# Altium integrated library TI_Logic_Gate.IntLib: 2017 symbols (part 7 of 56)
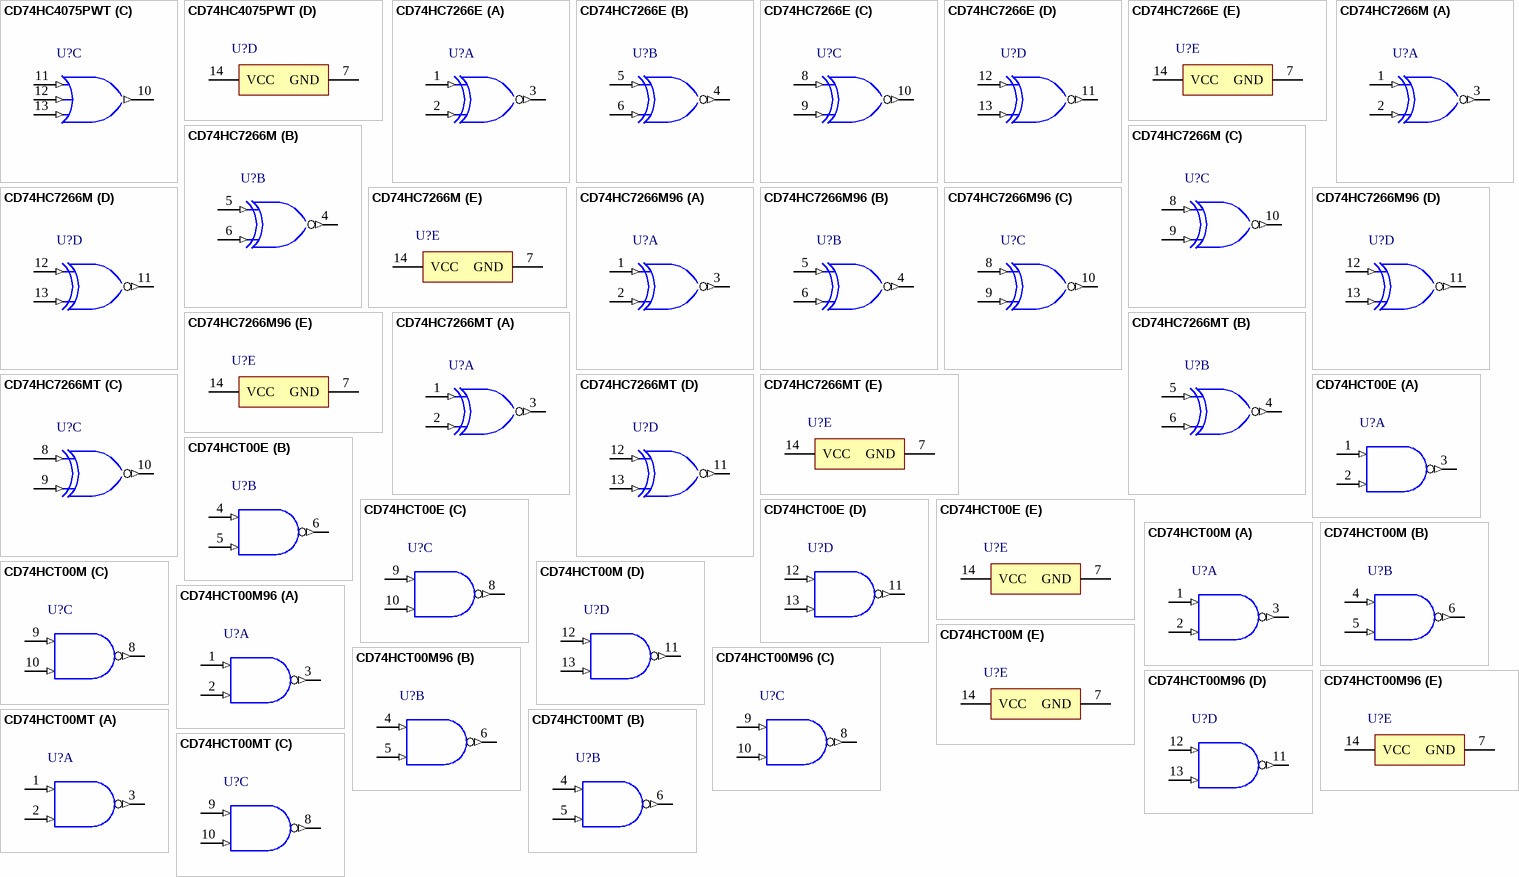
[diagram p232: symbols CD74HC4075PWT to CD74HCT00MT]

## CD74HC7266E
designator U?
High Speed CMOS Logic Quad 2-Input Exclusive-NOR Gates, N0014A, TUBE; Generic Part Number: CD74HC7266; Manufacturer: Texas Instruments; PartNumber: CD74HC7266E; VCC(Min)(V): 2; VCC(Max)(V): 6; Output Drive(mA): -5.2/5.2; ICC @ Nom Voltage(Max)(mA): 0.02; Bits(#): 4; F @ Nom Voltage(Max)(Mhz): 9; Rating: Catalog; Technology Family: HC; Voltage(Nom)(V): 10; Schmitt Trigger: No; tpd @ Nom Voltage(Max)(ns): 25; DatasheetVersion: SCHS219D; PackageReference: N0014A; Supplier 1: Mouser; Supplier Part Number 1: 595-CD74HC7266E; Supplier 2: Digi-Key; Supplier Part Number 2: 296-33119-5-ND; Output Type: CMOS; Input Type: CMOS; Operating Temperature Range(C): -55 to 125; Output Drive (IOL/IOH)(Max)(mA): -5.2/5.2; ComponentLink1Description: Manufacturer URL; ComponentLink1URL: http://www.ti.com/; ComponentLink2Description: Datasheet; ComponentLink2URL: http://www.ti.com/lit/ds/symlink/cd74hc7266.pdf
footprint N0014A (DIP, 14-Leads, Body 19.7x6.6mm, Pitch 2.54mm)
part A pins: 1 1A (in), 2 1B (in), 3 1Y (out)
part B pins: 4 2Y (out), 5 2A (in), 6 2B (in)
part C pins: 8 3A (in), 9 3B (in), 10 3Y (out)
part D pins: 11 4Y (out), 12 4A (in), 13 4B (in)
part E pins: 7 GND (power), 14 VCC (power)

## CD74HC7266M
designator U?
High Speed CMOS Logic Quad 2-Input Exclusive-NOR Gates, D0014A, TUBE; Generic Part Number: CD74HC7266; Manufacturer: Texas Instruments; PartNumber: CD74HC7266M; VCC(Min)(V): 2; VCC(Max)(V): 6; Output Drive(mA): -5.2/5.2; ICC @ Nom Voltage(Max)(mA): 0.02; Bits(#): 4; F @ Nom Voltage(Max)(Mhz): 9; Rating: Catalog; Technology Family: HC; Voltage(Nom)(V): 10; Schmitt Trigger: No; tpd @ Nom Voltage(Max)(ns): 25; DatasheetVersion: SCHS219D; PackageReference: D0014A; Supplier 1: Mouser; Supplier Part Number 1: 595-CD74HC7266M; Supplier 2: Digi-Key; Supplier Part Number 2: 296-9239-5-ND; Output Type: CMOS; Input Type: CMOS; Operating Temperature Range(C): -55 to 125; Output Drive (IOL/IOH)(Max)(mA): -5.2/5.2; ComponentLink1Description: Manufacturer URL; ComponentLink1URL: http://www.ti.com/; ComponentLink2Description: Datasheet; ComponentLink2URL: http://www.ti.com/lit/ds/symlink/cd74hc7266.pdf
footprint D0014A_N (SOIC, 14-Leads, Body 8.75x4mm, Pitch 1.27mm, IPC Medium Density)
footprint D0014A_M (SOIC, 14-Leads, Body 8.75x4mm, Pitch 1.27mm, IPC Low Density)
footprint D0014A_L (SOIC, 14-Leads, Body 8.75x4mm, Pitch 1.27mm, IPC High Density)
part A pins: 1 1A (in), 2 1B (in), 3 1Y (out)
part B pins: 4 2Y (out), 5 2A (in), 6 2B (in)
part C pins: 8 3A (in), 9 3B (in), 10 3Y (out)
part D pins: 11 4Y (out), 12 4A (in), 13 4B (in)
part E pins: 7 GND (power), 14 VCC (power)

## CD74HC7266M96
designator U?
High Speed CMOS Logic Quad 2-Input Exclusive-NOR Gates, D0014A, LARGE T&R; Generic Part Number: CD74HC7266; Manufacturer: Texas Instruments; PartNumber: CD74HC7266M96; VCC(Min)(V): 2; VCC(Max)(V): 6; Output Drive(mA): -5.2/5.2; ICC @ Nom Voltage(Max)(mA): 0.02; Bits(#): 4; F @ Nom Voltage(Max)(Mhz): 9; Rating: Catalog; Technology Family: HC; Voltage(Nom)(V): 10; Schmitt Trigger: No; tpd @ Nom Voltage(Max)(ns): 25; DatasheetVersion: SCHS219D; PackageReference: D0014A; Supplier 1: Mouser; Supplier Part Number 1: 595-CD74HC7266M96; Supplier 2: Digi-Key; Supplier Part Number 2: 296-28580-2-ND; Supplier 3: Digi-Key; Supplier Part Number 3: 296-28580-1-ND; Supplier 4: Digi-Key; Supplier Part Number 4: 296-28580-6-ND; Output Type: CMOS; Input Type: CMOS; Operating Temperature Range(C): -55 to 125; Output Drive (IOL/IOH)(Max)(mA): -5.2/5.2; ComponentLink1Description: Manufacturer URL; ComponentLink1URL: http://www.ti.com/; ComponentLink2Description: Datasheet; ComponentLink2URL: http://www.ti.com/lit/ds/symlink/cd74hc7266.pdf
footprint D0014A_N (SOIC, 14-Leads, Body 8.75x4mm, Pitch 1.27mm, IPC Medium Density)
footprint D0014A_M (SOIC, 14-Leads, Body 8.75x4mm, Pitch 1.27mm, IPC Low Density)
footprint D0014A_L (SOIC, 14-Leads, Body 8.75x4mm, Pitch 1.27mm, IPC High Density)
part A pins: 1 1A (in), 2 1B (in), 3 1Y (out)
part B pins: 4 2Y (out), 5 2A (in), 6 2B (in)
part C pins: 8 3A (in), 9 3B (in), 10 3Y (out)
part D pins: 11 4Y (out), 12 4A (in), 13 4B (in)
part E pins: 7 GND (power), 14 VCC (power)

## CD74HC7266MT
designator U?
High Speed CMOS Logic Quad 2-Input Exclusive-NOR Gates, D0014A, SMALL T&R; Generic Part Number: CD74HC7266; Manufacturer: Texas Instruments; PartNumber: CD74HC7266MT; VCC(Min)(V): 2; VCC(Max)(V): 6; Output Drive(mA): -5.2/5.2; ICC @ Nom Voltage(Max)(mA): 0.02; Bits(#): 4; F @ Nom Voltage(Max)(Mhz): 9; Rating: Catalog; Technology Family: HC; Voltage(Nom)(V): 10; Schmitt Trigger: No; tpd @ Nom Voltage(Max)(ns): 25; DatasheetVersion: SCHS219D; PackageReference: D0014A; Supplier 1: Mouser; Supplier Part Number 1: 595-CD74HC7266MT; Supplier 2: Digi-Key; Supplier Part Number 2: 296-28581-2-ND; Supplier 3: Digi-Key; Supplier Part Number 3: 296-28581-1-ND; Supplier 4: Digi-Key; Supplier Part Number 4: 296-28581-6-ND; Output Type: CMOS; Input Type: CMOS; Operating Temperature Range(C): -55 to 125; Output Drive (IOL/IOH)(Max)(mA): -5.2/5.2; ComponentLink1Description: Manufacturer URL; ComponentLink1URL: http://www.ti.com/; ComponentLink2Description: Datasheet; ComponentLink2URL: http://www.ti.com/lit/ds/symlink/cd74hc7266.pdf
footprint D0014A_N (SOIC, 14-Leads, Body 8.75x4mm, Pitch 1.27mm, IPC Medium Density)
footprint D0014A_M (SOIC, 14-Leads, Body 8.75x4mm, Pitch 1.27mm, IPC Low Density)
footprint D0014A_L (SOIC, 14-Leads, Body 8.75x4mm, Pitch 1.27mm, IPC High Density)
part A pins: 1 1A (in), 2 1B (in), 3 1Y (out)
part B pins: 4 2Y (out), 5 2A (in), 6 2B (in)
part C pins: 8 3A (in), 9 3B (in), 10 3Y (out)
part D pins: 11 4Y (out), 12 4A (in), 13 4B (in)
part E pins: 7 GND (power), 14 VCC (power)

## CD74HCT00E
designator U?
High Speed CMOS Logic Quad 2-Input NAND Gates, N0014A, TUBE; Generic Part Number: CD74HCT00; Manufacturer: Texas Instruments; PartNumber: CD74HCT00E; VCC(Min)(V): 4.5; VCC(Max)(V): 5.5; ICC @ Nom Voltage(Max)(mA): 0.02; Input Type: TTL; Bits(#): 4; F @ Nom Voltage(Max)(Mhz): 25; Rating: Catalog; Technology Family: HCT; Voltage(Nom)(V): 5; Schmitt Trigger: No; Output Drive (IOL/IOH)(Max)(mA): 4/-4; DatasheetVersion: SCHS116C; PackageReference: N0014A; Supplier 1: Mouser; Supplier Part Number 1: 595-CD74HCT00E; Supplier 2: Digi-Key; Supplier Part Number 2: 296-2081-5-ND; Output Type: CMOS; Operating Temperature Range(C): -55 to 125; tpd @ Nom Voltage(Max)(ns): 25; Code_JEDEC: MS-001; ComponentLink1Description: Manufacturer URL; ComponentLink1URL: http://www.ti.com/; ComponentLink2Description: Datasheet; ComponentLink2URL: http://www.ti.com/lit/ds/symlink/cd74hct00.pdf; ComponentLink3Description: Package Specification; ComponentLink3URL: http://www.ti.com/lit/ml/mpdi002c/mpdi002c.pdf
footprint N0014A (DIP, 14-Leads, Body 19.7x6.6mm, Pitch 2.54mm)
part A pins: 1 1A (in) "Gate 1 input", 2 1B (in) "Gate 1 input", 3 1Y (out) "Gate 1 output"
part B pins: 4 2A (in) "Gate 2 input", 5 2B (in) "Gate 2 input", 6 2Y (out) "Gate 2 output"
part C pins: 8 3Y (out) "Gate 3 output", 9 3A (in) "Gate 3 input", 10 3B (in) "Gate 3 input"
part D pins: 11 4Y (out) "Gate 4 output", 12 4A (in) "Gate 4 input", 13 4B (in) "Gate 4 input"
part E pins: 7 GND (power) "Ground Pin", 14 VCC (power) "Power Pin"

## CD74HCT00M
designator U?
High Speed CMOS Logic Quad 2-Input NAND Gates, D0014A, TUBE; Generic Part Number: CD74HCT00; Manufacturer: Texas Instruments; PartNumber: CD74HCT00M; VCC(Min)(V): 4.5; VCC(Max)(V): 5.5; ICC @ Nom Voltage(Max)(mA): 0.02; Input Type: TTL; Bits(#): 4; F @ Nom Voltage(Max)(Mhz): 25; Rating: Catalog; Technology Family: HCT; Voltage(Nom)(V): 5; Schmitt Trigger: No; Output Drive (IOL/IOH)(Max)(mA): 4/-4; DatasheetVersion: SCHS116C; PackageReference: D0014A; Supplier 1: Mouser; Supplier Part Number 1: 595-CD74HCT00M; Supplier 2: Digi-Key; Supplier Part Number 2: 296-9244-5-ND; Output Type: CMOS; Operating Temperature Range(C): -55 to 125; tpd @ Nom Voltage(Max)(ns): 25; Code_JEDEC: MS-012; ComponentLink1Description: Manufacturer URL; ComponentLink1URL: http://www.ti.com/; ComponentLink2Description: Datasheet; ComponentLink2URL: http://www.ti.com/lit/ds/symlink/cd74hct00.pdf; ComponentLink3Description: Package Specification; ComponentLink3URL: http://www.ti.com/lit/ml/mpds177g/mpds177g.pdf
footprint D0014A_N (SOIC, 14-Leads, Body 8.75x4mm, Pitch 1.27mm, IPC Medium Density)
footprint D0014A_M (SOIC, 14-Leads, Body 8.75x4mm, Pitch 1.27mm, IPC Low Density)
footprint D0014A_L (SOIC, 14-Leads, Body 8.75x4mm, Pitch 1.27mm, IPC High Density)
part A pins: 1 1A (in) "Gate 1 input", 2 1B (in) "Gate 1 input", 3 1Y (out) "Gate 1 output"
part B pins: 4 2A (in) "Gate 2 input", 5 2B (in) "Gate 2 input", 6 2Y (out) "Gate 2 output"
part C pins: 8 3Y (out) "Gate 3 output", 9 3A (in) "Gate 3 input", 10 3B (in) "Gate 3 input"
part D pins: 11 4Y (out) "Gate 4 output", 12 4A (in) "Gate 4 input", 13 4B (in) "Gate 4 input"
part E pins: 7 GND (power) "Ground Pin", 14 VCC (power) "Power Pin"

## CD74HCT00M96
designator U?
High Speed CMOS Logic Quad 2-Input NAND Gates, D0014A, LARGE T&R; Generic Part Number: CD74HCT00; Manufacturer: Texas Instruments; PartNumber: CD74HCT00M96; VCC(Min)(V): 4.5; VCC(Max)(V): 5.5; ICC @ Nom Voltage(Max)(mA): 0.02; Input Type: TTL; Bits(#): 4; F @ Nom Voltage(Max)(Mhz): 25; Rating: Catalog; Technology Family: HCT; Voltage(Nom)(V): 5; Schmitt Trigger: No; Output Drive (IOL/IOH)(Max)(mA): 4/-4; DatasheetVersion: SCHS116C; PackageReference: D0014A; Supplier 1: Mouser; Supplier Part Number 1: 595-CD74HCT00M96; Supplier 2: Digi-Key; Supplier Part Number 2: 296-14542-2-ND; Supplier 3: Digi-Key; Supplier Part Number 3: 296-14542-1-ND; Supplier 4: Digi-Key; Supplier Part Number 4: 296-14542-6-ND; Output Type: CMOS; Operating Temperature Range(C): -55 to 125; tpd @ Nom Voltage(Max)(ns): 25; Code_JEDEC: MS-012; ComponentLink1Description: Manufacturer URL; ComponentLink1URL: http://www.ti.com/; ComponentLink2Description: Datasheet; ComponentLink2URL: http://www.ti.com/lit/ds/symlink/cd74hct00.pdf; ComponentLink3Description: Package Specification; ComponentLink3URL: http://www.ti.com/lit/ml/mpds177g/mpds177g.pdf
footprint D0014A_N (SOIC, 14-Leads, Body 8.75x4mm, Pitch 1.27mm, IPC Medium Density)
footprint D0014A_M (SOIC, 14-Leads, Body 8.75x4mm, Pitch 1.27mm, IPC Low Density)
footprint D0014A_L (SOIC, 14-Leads, Body 8.75x4mm, Pitch 1.27mm, IPC High Density)
part A pins: 1 1A (in) "Gate 1 input", 2 1B (in) "Gate 1 input", 3 1Y (out) "Gate 1 output"
part B pins: 4 2A (in) "Gate 2 input", 5 2B (in) "Gate 2 input", 6 2Y (out) "Gate 2 output"
part C pins: 8 3Y (out) "Gate 3 output", 9 3A (in) "Gate 3 input", 10 3B (in) "Gate 3 input"
part D pins: 11 4Y (out) "Gate 4 output", 12 4A (in) "Gate 4 input", 13 4B (in) "Gate 4 input"
part E pins: 7 GND (power) "Ground Pin", 14 VCC (power) "Power Pin"

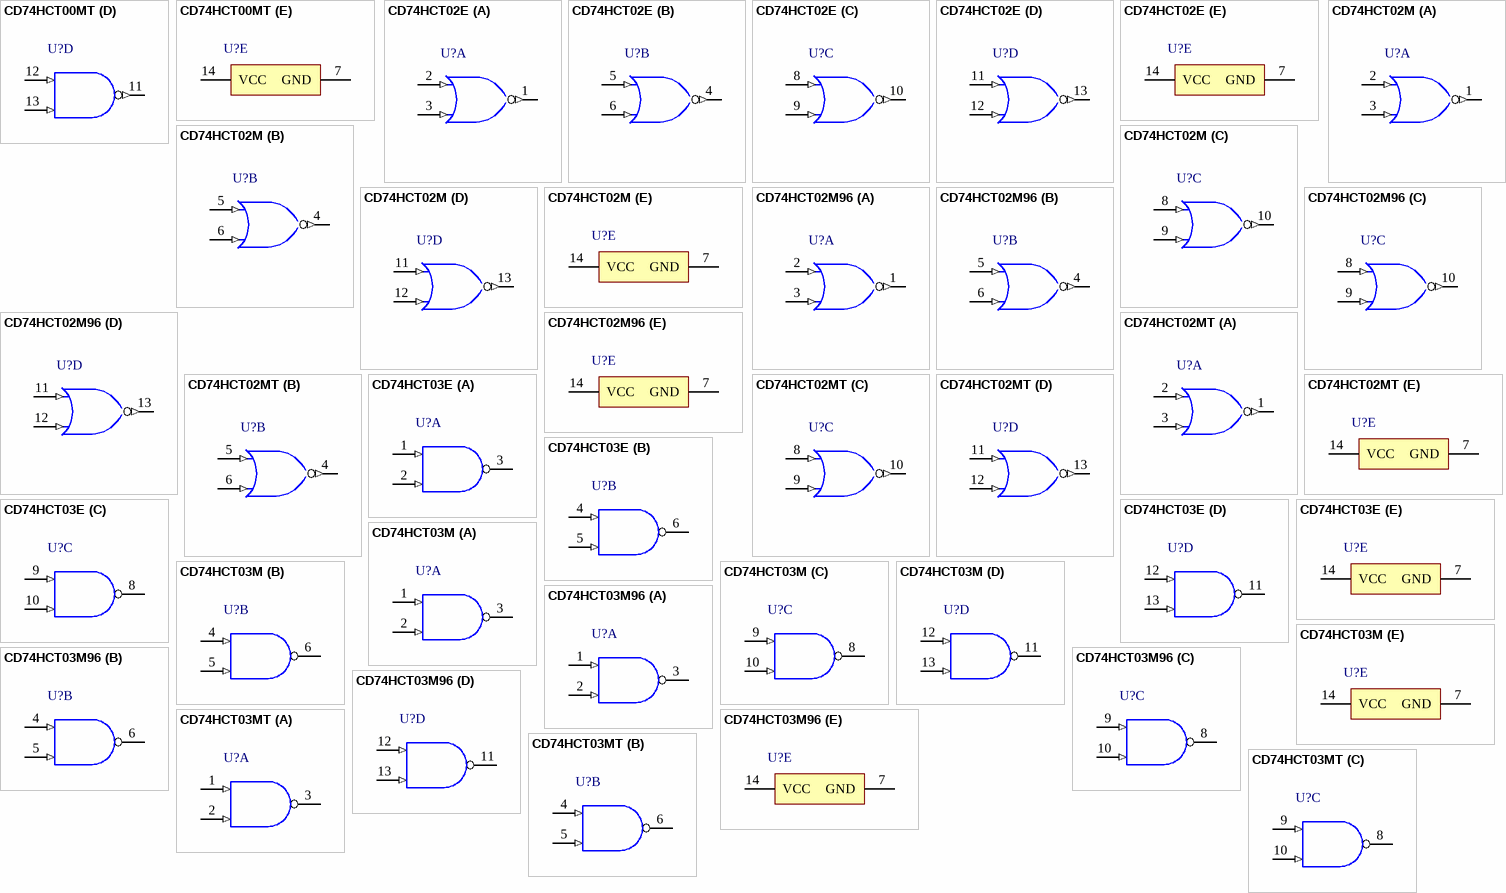
[diagram p26: symbols CD74HCT00MT to CD74HCT03MT]

## CD74HCT00MT
designator U?
High Speed CMOS Logic Quad 2-Input NAND Gates, D0014A, SMALL T&R; Generic Part Number: CD74HCT00; Manufacturer: Texas Instruments; PartNumber: CD74HCT00MT; VCC(Min)(V): 4.5; VCC(Max)(V): 5.5; ICC @ Nom Voltage(Max)(mA): 0.02; Input Type: TTL; Bits(#): 4; F @ Nom Voltage(Max)(Mhz): 25; Rating: Catalog; Technology Family: HCT; Voltage(Nom)(V): 5; Schmitt Trigger: No; Output Drive (IOL/IOH)(Max)(mA): 4/-4; DatasheetVersion: SCHS116C; PackageReference: D0014A; Supplier 1: Mouser; Supplier Part Number 1: 595-CD74HCT00MT; Supplier 2: Digi-Key; Supplier Part Number 2: 296-28584-2-ND; Supplier 3: Digi-Key; Supplier Part Number 3: 296-28584-1-ND; Supplier 4: Digi-Key; Supplier Part Number 4: 296-28584-6-ND; Output Type: CMOS; Operating Temperature Range(C): -55 to 125; tpd @ Nom Voltage(Max)(ns): 25; Code_JEDEC: MS-012; ComponentLink1Description: Manufacturer URL; ComponentLink1URL: http://www.ti.com/; ComponentLink2Description: Datasheet; ComponentLink2URL: http://www.ti.com/lit/ds/symlink/cd74hct00.pdf; ComponentLink3Description: Package Specification; ComponentLink3URL: http://www.ti.com/lit/ml/mpds177g/mpds177g.pdf
footprint D0014A_N (SOIC, 14-Leads, Body 8.75x4mm, Pitch 1.27mm, IPC Medium Density)
footprint D0014A_M (SOIC, 14-Leads, Body 8.75x4mm, Pitch 1.27mm, IPC Low Density)
footprint D0014A_L (SOIC, 14-Leads, Body 8.75x4mm, Pitch 1.27mm, IPC High Density)
part A pins: 1 1A (in) "Gate 1 input", 2 1B (in) "Gate 1 input", 3 1Y (out) "Gate 1 output"
part B pins: 4 2A (in) "Gate 2 input", 5 2B (in) "Gate 2 input", 6 2Y (out) "Gate 2 output"
part C pins: 8 3Y (out) "Gate 3 output", 9 3A (in) "Gate 3 input", 10 3B (in) "Gate 3 input"
part D pins: 11 4Y (out) "Gate 4 output", 12 4A (in) "Gate 4 input", 13 4B (in) "Gate 4 input"
part E pins: 7 GND (power) "Ground Pin", 14 VCC (power) "Power Pin"

## CD74HCT02E
designator U?
High Speed CMOS Logic Quad Two-Input NOR Gates, N0014A, TUBE; Generic Part Number: CD74HCT02; Manufacturer: Texas Instruments; PartNumber: CD74HCT02E; VCC(Min)(V): 4.5; VCC(Max)(V): 5.5; Input Type: TTL; Bits(#): 4; Rating: Catalog; tpd @ Nom Voltage(Max)(ns): 26; ICC @ Nom Voltage(Max)(mA): 0.02; F @ Nom Voltage(Max)(Mhz): 25; Voltage(Nom)(V): 5; Output Drive (IOL/IOH)(Max)(mA): 4/-4; DatasheetVersion: SCHS125C; PackageReference: N0014A; Output Type: CMOS; Operating Temperature Range(C): -55 to 125; Code_JEDEC: MS-001; ComponentLink1Description: Manufacturer URL; ComponentLink1URL: http://www.ti.com/; ComponentLink2Description: Datasheet; ComponentLink2URL: http://www.ti.com/lit/ds/symlink/cd74hct02.pdf; ComponentLink3Description: Package Specification; ComponentLink3URL: http://www.ti.com/lit/ml/mpdi002c/mpdi002c.pdf
footprint N0014A (DIP, 14-Leads, Body 19.7x6.6mm, Pitch 2.54mm)
part A pins: 1 1Y (out) "1Y output", 2 1A (in) "1A input", 3 1B (in) "1B input"
part B pins: 4 2Y (out) "2Y output", 5 2A (in) "2A input", 6 2B (in) "2B input"
part C pins: 8 3A (in) "3A input", 9 3B (in) "3B input", 10 3Y (out) "3Y output"
part D pins: 11 4A (in) "4A input", 12 4B (in) "4B input", 13 4Y (out) "4Y output"
part E pins: 7 GND (power), 14 VCC (power)

## CD74HCT02M
designator U?
High Speed CMOS Logic Quad Two-Input NOR Gates, D0014A, TUBE; Generic Part Number: CD74HCT02; Manufacturer: Texas Instruments; PartNumber: CD74HCT02M; VCC(Min)(V): 4.5; VCC(Max)(V): 5.5; Input Type: TTL; Bits(#): 4; Rating: Catalog; tpd @ Nom Voltage(Max)(ns): 26; ICC @ Nom Voltage(Max)(mA): 0.02; F @ Nom Voltage(Max)(Mhz): 25; Voltage(Nom)(V): 5; Output Drive (IOL/IOH)(Max)(mA): 4/-4; DatasheetVersion: SCHS125C; PackageReference: D0014A; Output Type: CMOS; Operating Temperature Range(C): -55 to 125; Code_JEDEC: MS-012; ComponentLink1Description: Manufacturer URL; ComponentLink1URL: http://www.ti.com/; ComponentLink2Description: Datasheet; ComponentLink2URL: http://www.ti.com/lit/ds/symlink/cd74hct02.pdf; ComponentLink3Description: Package Specification; ComponentLink3URL: http://www.ti.com/lit/ml/mpds177g/mpds177g.pdf
footprint D0014A_N (SOIC, 14-Leads, Body 8.75x4mm, Pitch 1.27mm, IPC Medium Density)
footprint D0014A_M (SOIC, 14-Leads, Body 8.75x4mm, Pitch 1.27mm, IPC Low Density)
footprint D0014A_L (SOIC, 14-Leads, Body 8.75x4mm, Pitch 1.27mm, IPC High Density)
part A pins: 1 1Y (out) "1Y output", 2 1A (in) "1A input", 3 1B (in) "1B input"
part B pins: 4 2Y (out) "2Y output", 5 2A (in) "2A input", 6 2B (in) "2B input"
part C pins: 8 3A (in) "3A input", 9 3B (in) "3B input", 10 3Y (out) "3Y output"
part D pins: 11 4A (in) "4A input", 12 4B (in) "4B input", 13 4Y (out) "4Y output"
part E pins: 7 GND (power), 14 VCC (power)

## CD74HCT02M96
designator U?
High Speed CMOS Logic Quad Two-Input NOR Gates, D0014A, LARGE T&R; Generic Part Number: CD74HCT02; Manufacturer: Texas Instruments; PartNumber: CD74HCT02M96; VCC(Min)(V): 4.5; VCC(Max)(V): 5.5; Input Type: TTL; Bits(#): 4; Rating: Catalog; tpd @ Nom Voltage(Max)(ns): 26; ICC @ Nom Voltage(Max)(mA): 0.02; F @ Nom Voltage(Max)(Mhz): 25; Voltage(Nom)(V): 5; Output Drive (IOL/IOH)(Max)(mA): 4/-4; DatasheetVersion: SCHS125C; PackageReference: D0014A; Output Type: CMOS; Operating Temperature Range(C): -55 to 125; Code_JEDEC: MS-012; ComponentLink1Description: Manufacturer URL; ComponentLink1URL: http://www.ti.com/; ComponentLink2Description: Datasheet; ComponentLink2URL: http://www.ti.com/lit/ds/symlink/cd74hct02.pdf; ComponentLink3Description: Package Specification; ComponentLink3URL: http://www.ti.com/lit/ml/mpds177g/mpds177g.pdf
footprint D0014A_N (SOIC, 14-Leads, Body 8.75x4mm, Pitch 1.27mm, IPC Medium Density)
footprint D0014A_M (SOIC, 14-Leads, Body 8.75x4mm, Pitch 1.27mm, IPC Low Density)
footprint D0014A_L (SOIC, 14-Leads, Body 8.75x4mm, Pitch 1.27mm, IPC High Density)
part A pins: 1 1Y (out) "1Y output", 2 1A (in) "1A input", 3 1B (in) "1B input"
part B pins: 4 2Y (out) "2Y output", 5 2A (in) "2A input", 6 2B (in) "2B input"
part C pins: 8 3A (in) "3A input", 9 3B (in) "3B input", 10 3Y (out) "3Y output"
part D pins: 11 4A (in) "4A input", 12 4B (in) "4B input", 13 4Y (out) "4Y output"
part E pins: 7 GND (power), 14 VCC (power)

## CD74HCT02MT
designator U?
High Speed CMOS Logic Quad Two-Input NOR Gates, D0014A, SMALL T&R; Generic Part Number: CD74HCT02; Manufacturer: Texas Instruments; PartNumber: CD74HCT02MT; VCC(Min)(V): 4.5; VCC(Max)(V): 5.5; Input Type: TTL; Bits(#): 4; Rating: Catalog; tpd @ Nom Voltage(Max)(ns): 26; ICC @ Nom Voltage(Max)(mA): 0.02; F @ Nom Voltage(Max)(Mhz): 25; Voltage(Nom)(V): 5; Output Drive (IOL/IOH)(Max)(mA): 4/-4; DatasheetVersion: SCHS125C; PackageReference: D0014A; Output Type: CMOS; Operating Temperature Range(C): -55 to 125; Code_JEDEC: MS-012; ComponentLink1Description: Manufacturer URL; ComponentLink1URL: http://www.ti.com/; ComponentLink2Description: Datasheet; ComponentLink2URL: http://www.ti.com/lit/ds/symlink/cd74hct02.pdf; ComponentLink3Description: Package Specification; ComponentLink3URL: http://www.ti.com/lit/ml/mpds177g/mpds177g.pdf
footprint D0014A_N (SOIC, 14-Leads, Body 8.75x4mm, Pitch 1.27mm, IPC Medium Density)
footprint D0014A_M (SOIC, 14-Leads, Body 8.75x4mm, Pitch 1.27mm, IPC Low Density)
footprint D0014A_L (SOIC, 14-Leads, Body 8.75x4mm, Pitch 1.27mm, IPC High Density)
part A pins: 1 1Y (out) "1Y output", 2 1A (in) "1A input", 3 1B (in) "1B input"
part B pins: 4 2Y (out) "2Y output", 5 2A (in) "2A input", 6 2B (in) "2B input"
part C pins: 8 3A (in) "3A input", 9 3B (in) "3B input", 10 3Y (out) "3Y output"
part D pins: 11 4A (in) "4A input", 12 4B (in) "4B input", 13 4Y (out) "4Y output"
part E pins: 7 GND (power), 14 VCC (power)

## CD74HCT03E
designator U?
High Speed CMOS Logic Quad 2-Input NAND Gates with Open Drain, N0014A, TUBE; Generic Part Number: CD74HCT03; Manufacturer: Texas Instruments; PartNumber: CD74HCT03E; VCC(Min)(V): 4.5; VCC(Max)(V): 5.5; ICC @ Nom Voltage(Max)(mA): 0.02; Input Type: TTL; Bits(#): 4; F @ Nom Voltage(Max)(Mhz): 25; Rating: Catalog; Technology Family: HCT; Voltage(Nom)(V): 5; Schmitt Trigger: No; Output Drive (IOL/IOH)(Max)(mA): 0/4; tpd @ Nom Voltage(Max)(ns): 30; DatasheetVersion: SCHS126D; PackageReference: N0014A; Supplier 1: Mouser; Supplier Part Number 1: 595-CD74HCT03E; Supplier 2: Digi-Key; Supplier Part Number 2: 296-2134-5-ND; Output Type: CMOS; Operating Temperature Range(C): -55 to 125; Code_JEDEC: MS-001; ComponentLink1Description: Manufacturer URL; ComponentLink1URL: http://www.ti.com/; ComponentLink2Description: Datasheet; ComponentLink2URL: http://www.ti.com/lit/ds/symlink/cd74hct03.pdf; ComponentLink3Description: Package Specification; ComponentLink3URL: http://www.ti.com/lit/ml/mpdi002c/mpdi002c.pdf
footprint N0014A (DIP, 14-Leads, Body 19.7x6.6mm, Pitch 2.54mm)
part A pins: 1 1A (in), 2 1B (in), 3 1Y (oc)
part B pins: 4 2A (in), 5 2B (in), 6 2Y (oc)
part C pins: 8 3Y (oc), 9 3A (in), 10 3B (in)
part D pins: 11 4Y (oc), 12 4A (in), 13 4B (in)
part E pins: 7 GND (power), 14 VCC (power)

## CD74HCT03M
designator U?
High Speed CMOS Logic Quad 2-Input NAND Gates with Open Drain, D0014A, TUBE; Generic Part Number: CD74HCT03; Manufacturer: Texas Instruments; PartNumber: CD74HCT03M; VCC(Min)(V): 4.5; VCC(Max)(V): 5.5; ICC @ Nom Voltage(Max)(mA): 0.02; Input Type: TTL; Bits(#): 4; F @ Nom Voltage(Max)(Mhz): 25; Rating: Catalog; Technology Family: HCT; Voltage(Nom)(V): 5; Schmitt Trigger: No; Output Drive (IOL/IOH)(Max)(mA): 0/4; tpd @ Nom Voltage(Max)(ns): 30; DatasheetVersion: SCHS126D; PackageReference: D0014A; Supplier 1: Mouser; Supplier Part Number 1: 595-CD74HCT03M; Supplier 2: Digi-Key; Supplier Part Number 2: 296-26015-5-ND; Output Type: CMOS; Operating Temperature Range(C): -55 to 125; Code_JEDEC: MS-012; ComponentLink1Description: Manufacturer URL; ComponentLink1URL: http://www.ti.com/; ComponentLink2Description: Datasheet; ComponentLink2URL: http://www.ti.com/lit/ds/symlink/cd74hct03.pdf; ComponentLink3Description: Package Specification; ComponentLink3URL: http://www.ti.com/lit/ml/mpds177g/mpds177g.pdf
footprint D0014A_N (SOIC, 14-Leads, Body 8.75x4mm, Pitch 1.27mm, IPC Medium Density)
footprint D0014A_M (SOIC, 14-Leads, Body 8.75x4mm, Pitch 1.27mm, IPC Low Density)
footprint D0014A_L (SOIC, 14-Leads, Body 8.75x4mm, Pitch 1.27mm, IPC High Density)
part A pins: 1 1A (in), 2 1B (in), 3 1Y (oc)
part B pins: 4 2A (in), 5 2B (in), 6 2Y (oc)
part C pins: 8 3Y (oc), 9 3A (in), 10 3B (in)
part D pins: 11 4Y (oc), 12 4A (in), 13 4B (in)
part E pins: 7 GND (power), 14 VCC (power)

## CD74HCT03M96
designator U?
High Speed CMOS Logic Quad 2-Input NAND Gates with Open Drain, D0014A, LARGE T&R; Generic Part Number: CD74HCT03; Manufacturer: Texas Instruments; PartNumber: CD74HCT03M96; VCC(Min)(V): 4.5; VCC(Max)(V): 5.5; ICC @ Nom Voltage(Max)(mA): 0.02; Input Type: TTL; Bits(#): 4; F @ Nom Voltage(Max)(Mhz): 25; Rating: Catalog; Technology Family: HCT; Voltage(Nom)(V): 5; Schmitt Trigger: No; Output Drive (IOL/IOH)(Max)(mA): 0/4; tpd @ Nom Voltage(Max)(ns): 30; DatasheetVersion: SCHS126D; PackageReference: D0014A; Supplier 1: Mouser; Supplier Part Number 1: 595-CD74HCT03M96; Supplier 2: Digi-Key; Supplier Part Number 2: 296-9245-2-ND; Supplier 3: Digi-Key; Supplier Part Number 3: 296-9245-1-ND; Supplier 4: Digi-Key; Supplier Part Number 4: 296-9245-6-ND; Output Type: CMOS; Operating Temperature Range(C): -55 to 125; Code_JEDEC: MS-012; ComponentLink1Description: Manufacturer URL; ComponentLink1URL: http://www.ti.com/; ComponentLink2Description: Datasheet; ComponentLink2URL: http://www.ti.com/lit/ds/symlink/cd74hct03.pdf; ComponentLink3Description: Package Specification; ComponentLink3URL: http://www.ti.com/lit/ml/mpds177g/mpds177g.pdf
footprint D0014A_N (SOIC, 14-Leads, Body 8.75x4mm, Pitch 1.27mm, IPC Medium Density)
footprint D0014A_M (SOIC, 14-Leads, Body 8.75x4mm, Pitch 1.27mm, IPC Low Density)
footprint D0014A_L (SOIC, 14-Leads, Body 8.75x4mm, Pitch 1.27mm, IPC High Density)
part A pins: 1 1A (in), 2 1B (in), 3 1Y (oc)
part B pins: 4 2A (in), 5 2B (in), 6 2Y (oc)
part C pins: 8 3Y (oc), 9 3A (in), 10 3B (in)
part D pins: 11 4Y (oc), 12 4A (in), 13 4B (in)
part E pins: 7 GND (power), 14 VCC (power)

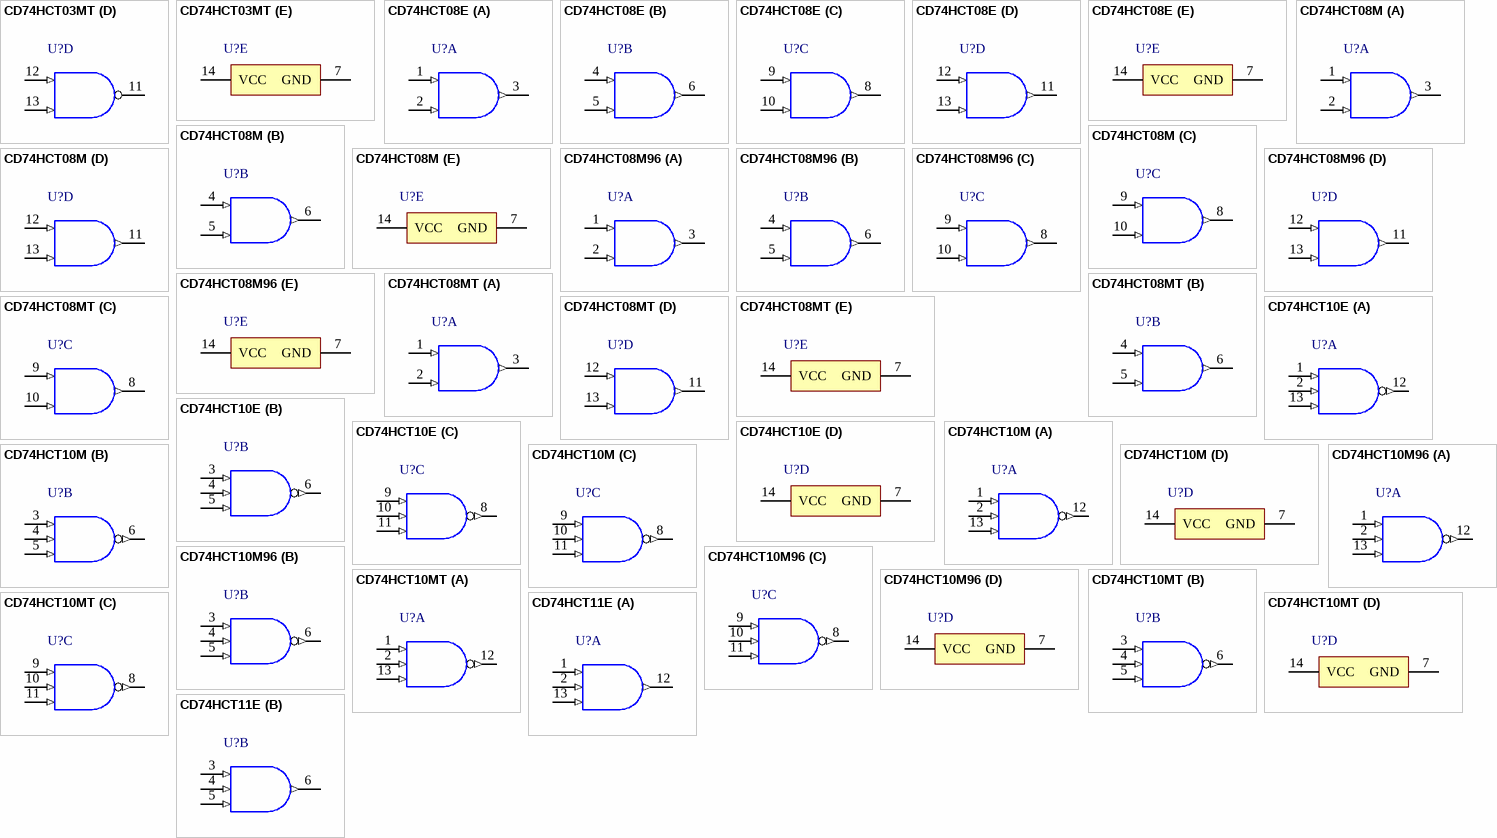
[diagram p27: symbols CD74HCT03MT to CD74HCT11E]

## CD74HCT03MT
designator U?
High Speed CMOS Logic Quad 2-Input NAND Gates with Open Drain, D0014A, SMALL T&R; Generic Part Number: CD74HCT03; Manufacturer: Texas Instruments; PartNumber: CD74HCT03MT; VCC(Min)(V): 4.5; VCC(Max)(V): 5.5; ICC @ Nom Voltage(Max)(mA): 0.02; Input Type: TTL; Bits(#): 4; F @ Nom Voltage(Max)(Mhz): 25; Rating: Catalog; Technology Family: HCT; Voltage(Nom)(V): 5; Schmitt Trigger: No; Output Drive (IOL/IOH)(Max)(mA): 0/4; tpd @ Nom Voltage(Max)(ns): 30; DatasheetVersion: SCHS126D; PackageReference: D0014A; Supplier 1: Mouser; Supplier Part Number 1: 595-CD74HCT03MT; Supplier 2: Digi-Key; Supplier Part Number 2: CD74HCT03MT-ND; Output Type: CMOS; Operating Temperature Range(C): -55 to 125; Code_JEDEC: MS-012; ComponentLink1Description: Manufacturer URL; ComponentLink1URL: http://www.ti.com/; ComponentLink2Description: Datasheet; ComponentLink2URL: http://www.ti.com/lit/ds/symlink/cd74hct03.pdf; ComponentLink3Description: Package Specification; ComponentLink3URL: http://www.ti.com/lit/ml/mpds177g/mpds177g.pdf
footprint D0014A_N (SOIC, 14-Leads, Body 8.75x4mm, Pitch 1.27mm, IPC Medium Density)
footprint D0014A_M (SOIC, 14-Leads, Body 8.75x4mm, Pitch 1.27mm, IPC Low Density)
footprint D0014A_L (SOIC, 14-Leads, Body 8.75x4mm, Pitch 1.27mm, IPC High Density)
part A pins: 1 1A (in), 2 1B (in), 3 1Y (oc)
part B pins: 4 2A (in), 5 2B (in), 6 2Y (oc)
part C pins: 8 3Y (oc), 9 3A (in), 10 3B (in)
part D pins: 11 4Y (oc), 12 4A (in), 13 4B (in)
part E pins: 7 GND (power), 14 VCC (power)

## CD74HCT08E
designator U?
High Speed CMOS Logic Quad 2-Input AND Gates, N0014A, TUBE; Generic Part Number: CD74HCT08; Manufacturer: Texas Instruments; PartNumber: CD74HCT08E; VCC(Min)(V): 4.5; VCC(Max)(V): 5.5; ICC @ Nom Voltage(Max)(mA): 0.02; Input Type: TTL; Bits(#): 4; F @ Nom Voltage(Max)(Mhz): 25; Rating: Catalog; Technology Family: HCT; Voltage(Nom)(V): 5; Schmitt Trigger: No; Output Drive (IOL/IOH)(Max)(mA): -5.2/5.2; tpd @ Nom Voltage(Max)(ns): 31; DatasheetVersion: SCHS118C; PackageReference: N0014A; Supplier 1: Mouser; Supplier Part Number 1: 595-CD74HCT08E; Supplier 2: Digi-Key; Supplier Part Number 2: 296-2084-5-ND; Output Type: CMOS; Operating Temperature Range(C): -55 to 125; ComponentLink1Description: Manufacturer URL; ComponentLink1URL: http://www.ti.com/; ComponentLink2Description: Datasheet; ComponentLink2URL: http://www.ti.com/lit/ds/symlink/cd74hct08.pdf
footprint N0014A (DIP, 14-Leads, Body 19.7x6.6mm, Pitch 2.54mm)
part A pins: 1 1A (in), 2 1B (in), 3 1Y (out)
part B pins: 4 2A (in), 5 2B (in), 6 2Y (out)
part C pins: 8 3Y (out), 9 3A (in), 10 3B (in)
part D pins: 11 4Y (out), 12 4A (in), 13 4B (in)
part E pins: 7 GND (power), 14 VCC (power)

## CD74HCT08M
designator U?
High Speed CMOS Logic Quad 2-Input AND Gates, D0014A, TUBE; Generic Part Number: CD74HCT08; Manufacturer: Texas Instruments; PartNumber: CD74HCT08M; VCC(Min)(V): 4.5; VCC(Max)(V): 5.5; ICC @ Nom Voltage(Max)(mA): 0.02; Input Type: TTL; Bits(#): 4; F @ Nom Voltage(Max)(Mhz): 25; Rating: Catalog; Technology Family: HCT; Voltage(Nom)(V): 5; Schmitt Trigger: No; Output Drive (IOL/IOH)(Max)(mA): -5.2/5.2; tpd @ Nom Voltage(Max)(ns): 31; DatasheetVersion: SCHS118C; PackageReference: D0014A; Supplier 1: Mouser; Supplier Part Number 1: 595-CD74HCT08M; Supplier 2: Digi-Key; Supplier Part Number 2: 296-12828-5-ND; Output Type: CMOS; Operating Temperature Range(C): -55 to 125; ComponentLink1Description: Manufacturer URL; ComponentLink1URL: http://www.ti.com/; ComponentLink2Description: Datasheet; ComponentLink2URL: http://www.ti.com/lit/ds/symlink/cd74hct08.pdf
footprint D0014A_N (SOIC, 14-Leads, Body 8.75x4mm, Pitch 1.27mm, IPC Medium Density)
footprint D0014A_M (SOIC, 14-Leads, Body 8.75x4mm, Pitch 1.27mm, IPC Low Density)
footprint D0014A_L (SOIC, 14-Leads, Body 8.75x4mm, Pitch 1.27mm, IPC High Density)
part A pins: 1 1A (in), 2 1B (in), 3 1Y (out)
part B pins: 4 2A (in), 5 2B (in), 6 2Y (out)
part C pins: 8 3Y (out), 9 3A (in), 10 3B (in)
part D pins: 11 4Y (out), 12 4A (in), 13 4B (in)
part E pins: 7 GND (power), 14 VCC (power)

## CD74HCT08M96
designator U?
High Speed CMOS Logic Quad 2-Input AND Gates, D0014A, LARGE T&R; Generic Part Number: CD74HCT08; Manufacturer: Texas Instruments; PartNumber: CD74HCT08M96; VCC(Min)(V): 4.5; VCC(Max)(V): 5.5; ICC @ Nom Voltage(Max)(mA): 0.02; Input Type: TTL; Bits(#): 4; F @ Nom Voltage(Max)(Mhz): 25; Rating: Catalog; Technology Family: HCT; Voltage(Nom)(V): 5; Schmitt Trigger: No; Output Drive (IOL/IOH)(Max)(mA): -5.2/5.2; tpd @ Nom Voltage(Max)(ns): 31; DatasheetVersion: SCHS118C; PackageReference: D0014A; Supplier 1: Mouser; Supplier Part Number 1: 595-CD74HCT08M96; Supplier 2: Digi-Key; Supplier Part Number 2: 296-14544-2-ND; Supplier 3: Digi-Key; Supplier Part Number 3: 296-14544-1-ND; Supplier 4: Digi-Key; Supplier Part Number 4: 296-14544-6-ND; Output Type: CMOS; Operating Temperature Range(C): -55 to 125; ComponentLink1Description: Manufacturer URL; ComponentLink1URL: http://www.ti.com/; ComponentLink2Description: Datasheet; ComponentLink2URL: http://www.ti.com/lit/ds/symlink/cd74hct08.pdf
footprint D0014A_N (SOIC, 14-Leads, Body 8.75x4mm, Pitch 1.27mm, IPC Medium Density)
footprint D0014A_M (SOIC, 14-Leads, Body 8.75x4mm, Pitch 1.27mm, IPC Low Density)
footprint D0014A_L (SOIC, 14-Leads, Body 8.75x4mm, Pitch 1.27mm, IPC High Density)
part A pins: 1 1A (in), 2 1B (in), 3 1Y (out)
part B pins: 4 2A (in), 5 2B (in), 6 2Y (out)
part C pins: 8 3Y (out), 9 3A (in), 10 3B (in)
part D pins: 11 4Y (out), 12 4A (in), 13 4B (in)
part E pins: 7 GND (power), 14 VCC (power)

## CD74HCT08MT
designator U?
High Speed CMOS Logic Quad 2-Input AND Gates, D0014A, SMALL T&R; Generic Part Number: CD74HCT08; Manufacturer: Texas Instruments; PartNumber: CD74HCT08MT; VCC(Min)(V): 4.5; VCC(Max)(V): 5.5; ICC @ Nom Voltage(Max)(mA): 0.02; Input Type: TTL; Bits(#): 4; F @ Nom Voltage(Max)(Mhz): 25; Rating: Catalog; Technology Family: HCT; Voltage(Nom)(V): 5; Schmitt Trigger: No; Output Drive (IOL/IOH)(Max)(mA): -5.2/5.2; tpd @ Nom Voltage(Max)(ns): 31; DatasheetVersion: SCHS118C; PackageReference: D0014A; Supplier 1: Mouser; Supplier Part Number 1: 595-CD74HCT08MT; Supplier 2: Digi-Key; Supplier Part Number 2: CD74HCT08MT-ND; Output Type: CMOS; Operating Temperature Range(C): -55 to 125; ComponentLink1Description: Manufacturer URL; ComponentLink1URL: http://www.ti.com/; ComponentLink2Description: Datasheet; ComponentLink2URL: http://www.ti.com/lit/ds/symlink/cd74hct08.pdf
footprint D0014A_N (SOIC, 14-Leads, Body 8.75x4mm, Pitch 1.27mm, IPC Medium Density)
footprint D0014A_M (SOIC, 14-Leads, Body 8.75x4mm, Pitch 1.27mm, IPC Low Density)
footprint D0014A_L (SOIC, 14-Leads, Body 8.75x4mm, Pitch 1.27mm, IPC High Density)
part A pins: 1 1A (in), 2 1B (in), 3 1Y (out)
part B pins: 4 2A (in), 5 2B (in), 6 2Y (out)
part C pins: 8 3Y (out), 9 3A (in), 10 3B (in)
part D pins: 11 4Y (out), 12 4A (in), 13 4B (in)
part E pins: 7 GND (power), 14 VCC (power)

## CD74HCT10E
designator U?
High Speed CMOS Logic Triple 3-Input NAND Gates, N0014A, TUBE; Generic Part Number: CD74HCT10; Manufacturer: Texas Instruments; PartNumber: CD74HCT10E; VCC(Min)(V): 4.5; VCC(Max)(V): 5.5; ICC @ Nom Voltage(Max)(mA): 0.02; Input Type: TTL; Bits(#): 3; F @ Nom Voltage(Max)(Mhz): 25; Rating: Catalog; Technology Family: HCT; Voltage(Nom)(V): 5; Schmitt Trigger: No; Output Drive (IOL/IOH)(Max)(mA): 4/-4; tpd @ Nom Voltage(Max)(ns): 30; DatasheetVersion: SCHS128C; PackageReference: N0014A; Supplier 1: Mouser; Supplier Part Number 1: 595-CD74HCT10E; Supplier 2: Digi-Key; Supplier Part Number 2: 296-2086-5-ND; Output Type: CMOS; Operating Temperature Range(C): -55 to 125; Code_JEDEC: MS-001; ComponentLink1Description: Manufacturer URL; ComponentLink1URL: http://www.ti.com/; ComponentLink2Description: Datasheet; ComponentLink2URL: http://www.ti.com/lit/ds/symlink/cd74hct10.pdf; ComponentLink3Description: Package Specification; ComponentLink3URL: http://www.ti.com/lit/ml/mpdi002c/mpdi002c.pdf
footprint N0014A (DIP, 14-Leads, Body 19.7x6.6mm, Pitch 2.54mm)
part A pins: 1 1A (in), 2 1B (in), 12 1Y (out), 13 1C (in)
part B pins: 3 2A (in), 4 2B (in), 5 2C (in), 6 2Y (out)
part C pins: 8 3Y (out), 9 3A (in), 10 3B (in), 11 3C (in)
part D pins: 7 GND (power), 14 VCC (power)

## CD74HCT10M
designator U?
High Speed CMOS Logic Triple 3-Input NAND Gates, D0014A, TUBE; Generic Part Number: CD74HCT10; Manufacturer: Texas Instruments; PartNumber: CD74HCT10M; VCC(Min)(V): 4.5; VCC(Max)(V): 5.5; ICC @ Nom Voltage(Max)(mA): 0.02; Input Type: TTL; Bits(#): 3; F @ Nom Voltage(Max)(Mhz): 25; Rating: Catalog; Technology Family: HCT; Voltage(Nom)(V): 5; Schmitt Trigger: No; Output Drive (IOL/IOH)(Max)(mA): 4/-4; tpd @ Nom Voltage(Max)(ns): 30; DatasheetVersion: SCHS128C; PackageReference: D0014A; Supplier 1: Mouser; Supplier Part Number 1: 595-CD74HCT10M; Supplier 2: Digi-Key; Supplier Part Number 2: 296-9247-5-ND; Output Type: CMOS; Operating Temperature Range(C): -55 to 125; Code_JEDEC: MS-012; ComponentLink1Description: Manufacturer URL; ComponentLink1URL: http://www.ti.com/; ComponentLink2Description: Datasheet; ComponentLink2URL: http://www.ti.com/lit/ds/symlink/cd74hct10.pdf; ComponentLink3Description: Package Specification; ComponentLink3URL: http://www.ti.com/lit/ml/mpds177g/mpds177g.pdf
footprint D0014A_N (SOIC, 14-Leads, Body 8.75x4mm, Pitch 1.27mm, IPC Medium Density)
footprint D0014A_M (SOIC, 14-Leads, Body 8.75x4mm, Pitch 1.27mm, IPC Low Density)
footprint D0014A_L (SOIC, 14-Leads, Body 8.75x4mm, Pitch 1.27mm, IPC High Density)
part A pins: 1 1A (in), 2 1B (in), 12 1Y (out), 13 1C (in)
part B pins: 3 2A (in), 4 2B (in), 5 2C (in), 6 2Y (out)
part C pins: 8 3Y (out), 9 3A (in), 10 3B (in), 11 3C (in)
part D pins: 7 GND (power), 14 VCC (power)

## CD74HCT10M96
designator U?
High Speed CMOS Logic Triple 3-Input NAND Gates, D0014A, LARGE T&R; Generic Part Number: CD74HCT10; Manufacturer: Texas Instruments; PartNumber: CD74HCT10M96; VCC(Min)(V): 4.5; VCC(Max)(V): 5.5; ICC @ Nom Voltage(Max)(mA): 0.02; Input Type: TTL; Bits(#): 3; F @ Nom Voltage(Max)(Mhz): 25; Rating: Catalog; Technology Family: HCT; Voltage(Nom)(V): 5; Schmitt Trigger: No; Output Drive (IOL/IOH)(Max)(mA): 4/-4; tpd @ Nom Voltage(Max)(ns): 30; DatasheetVersion: SCHS128C; PackageReference: D0014A; Supplier 1: Mouser; Supplier Part Number 1: 595-CD74HCT10M96; Supplier 2: Digi-Key; Supplier Part Number 2: 296-14545-2-ND; Supplier 3: Digi-Key; Supplier Part Number 3: 296-14545-1-ND; Supplier 4: Digi-Key; Supplier Part Number 4: 296-14545-6-ND; Output Type: CMOS; Operating Temperature Range(C): -55 to 125; Code_JEDEC: MS-012; ComponentLink1Description: Manufacturer URL; ComponentLink1URL: http://www.ti.com/; ComponentLink2Description: Datasheet; ComponentLink2URL: http://www.ti.com/lit/ds/symlink/cd74hct10.pdf; ComponentLink3Description: Package Specification; ComponentLink3URL: http://www.ti.com/lit/ml/mpds177g/mpds177g.pdf
footprint D0014A_N (SOIC, 14-Leads, Body 8.75x4mm, Pitch 1.27mm, IPC Medium Density)
footprint D0014A_M (SOIC, 14-Leads, Body 8.75x4mm, Pitch 1.27mm, IPC Low Density)
footprint D0014A_L (SOIC, 14-Leads, Body 8.75x4mm, Pitch 1.27mm, IPC High Density)
part A pins: 1 1A (in), 2 1B (in), 12 1Y (out), 13 1C (in)
part B pins: 3 2A (in), 4 2B (in), 5 2C (in), 6 2Y (out)
part C pins: 8 3Y (out), 9 3A (in), 10 3B (in), 11 3C (in)
part D pins: 7 GND (power), 14 VCC (power)

## CD74HCT10MT
designator U?
High Speed CMOS Logic Triple 3-Input NAND Gates, D0014A, SMALL T&R; Generic Part Number: CD74HCT10; Manufacturer: Texas Instruments; PartNumber: CD74HCT10MT; VCC(Min)(V): 4.5; VCC(Max)(V): 5.5; ICC @ Nom Voltage(Max)(mA): 0.02; Input Type: TTL; Bits(#): 3; F @ Nom Voltage(Max)(Mhz): 25; Rating: Catalog; Technology Family: HCT; Voltage(Nom)(V): 5; Schmitt Trigger: No; Output Drive (IOL/IOH)(Max)(mA): 4/-4; tpd @ Nom Voltage(Max)(ns): 30; DatasheetVersion: SCHS128C; PackageReference: D0014A; Supplier 1: Mouser; Supplier Part Number 1: 595-CD74HCT10MT; Supplier 2: Digi-Key; Supplier Part Number 2: 296-28587-2-ND; Supplier 3: Digi-Key; Supplier Part Number 3: 296-28587-1-ND; Supplier 4: Digi-Key; Supplier Part Number 4: 296-28587-6-ND; Output Type: CMOS; Operating Temperature Range(C): -55 to 125; Code_JEDEC: MS-012; ComponentLink1Description: Manufacturer URL; ComponentLink1URL: http://www.ti.com/; ComponentLink2Description: Datasheet; ComponentLink2URL: http://www.ti.com/lit/ds/symlink/cd74hct10.pdf; ComponentLink3Description: Package Specification; ComponentLink3URL: http://www.ti.com/lit/ml/mpds177g/mpds177g.pdf
footprint D0014A_N (SOIC, 14-Leads, Body 8.75x4mm, Pitch 1.27mm, IPC Medium Density)
footprint D0014A_M (SOIC, 14-Leads, Body 8.75x4mm, Pitch 1.27mm, IPC Low Density)
footprint D0014A_L (SOIC, 14-Leads, Body 8.75x4mm, Pitch 1.27mm, IPC High Density)
part A pins: 1 1A (in), 2 1B (in), 12 1Y (out), 13 1C (in)
part B pins: 3 2A (in), 4 2B (in), 5 2C (in), 6 2Y (out)
part C pins: 8 3Y (out), 9 3A (in), 10 3B (in), 11 3C (in)
part D pins: 7 GND (power), 14 VCC (power)

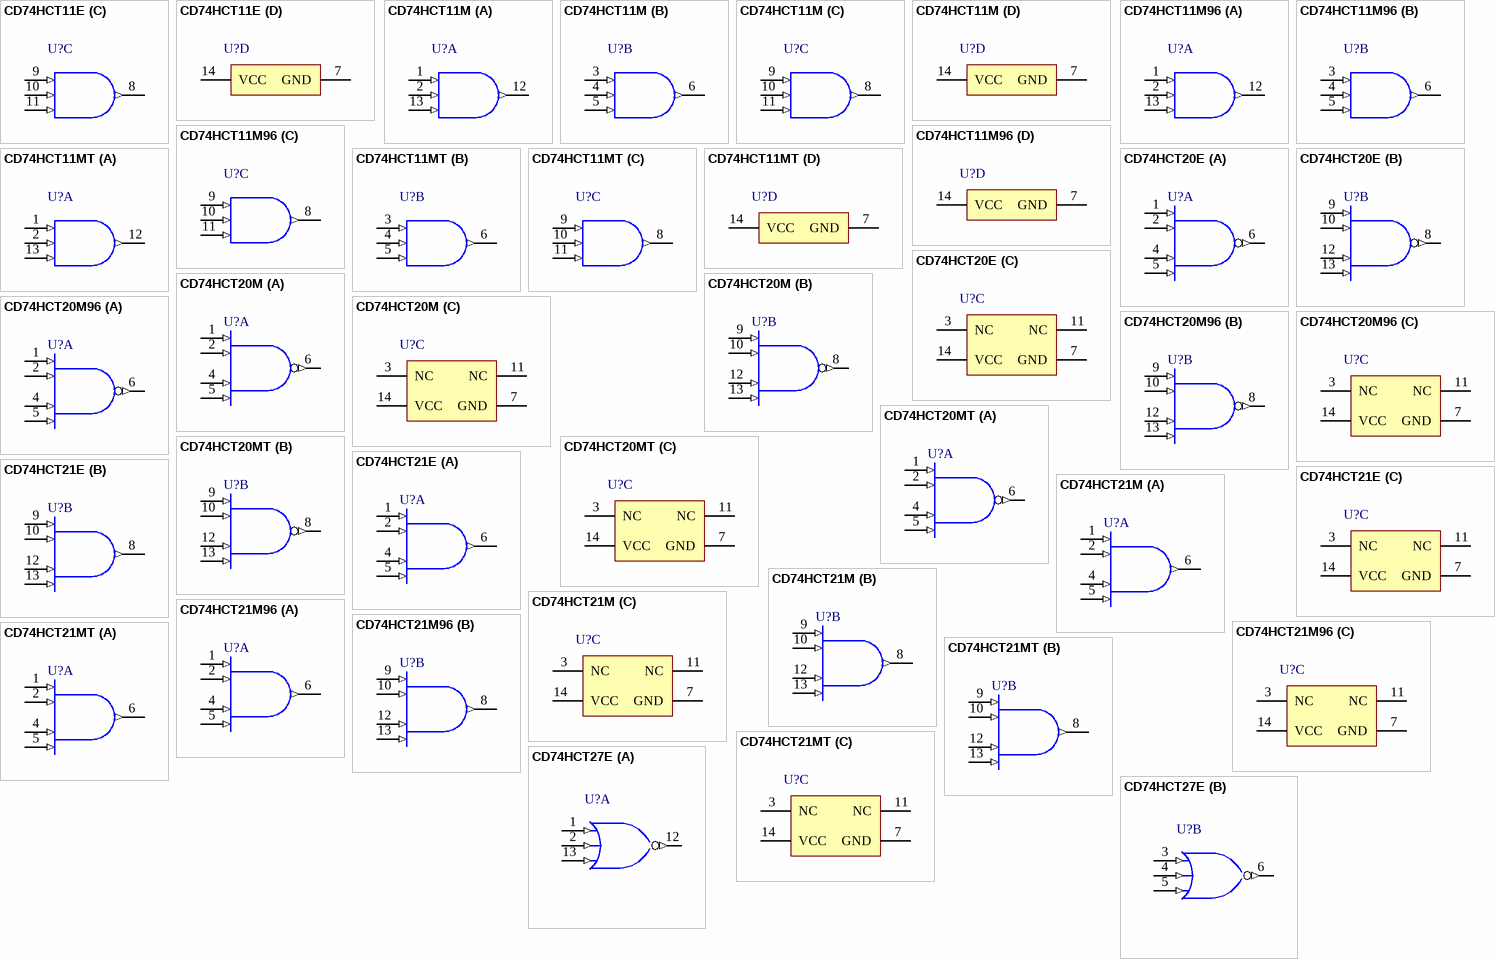
[diagram p28: symbols CD74HCT11E to CD74HCT27E]

## CD74HCT11E
designator U?
High Speed CMOS Logic Triple 3-Input AND Gates, N0014A, TUBE; Generic Part Number: CD74HCT11; Manufacturer: Texas Instruments; PartNumber: CD74HCT11E; VCC(Min)(V): 4.5; VCC(Max)(V): 5.5; ICC @ Nom Voltage(Max)(mA): 0.02; Input Type: TTL; Bits(#): 3; F @ Nom Voltage(Max)(Mhz): 25; Rating: Catalog; Technology Family: HCT; Voltage(Nom)(V): 5; Schmitt Trigger: No; Output Drive (IOL/IOH)(Max)(mA): -4/4; tpd @ Nom Voltage(Max)(ns): 35; DatasheetVersion: SCHS273E; PackageReference: N0014A; Supplier 1: Mouser; Supplier Part Number 1: 595-CD74HCT11E; Supplier 2: Digi-Key; Supplier Part Number 2: 296-2087-5-ND; Output Type: CMOS; Operating Temperature Range(C): -55 to 125; ComponentLink1Description: Manufacturer URL; ComponentLink1URL: http://www.ti.com/; ComponentLink2Description: Datasheet; ComponentLink2URL: http://www.ti.com/lit/ds/symlink/cd74hct11.pdf
footprint N0014A (DIP, 14-Leads, Body 19.7x6.6mm, Pitch 2.54mm)
part A pins: 1 1A (in), 2 1B (in), 12 1Y (out), 13 1C (in)
part B pins: 3 2A (in), 4 2B (in), 5 2C (in), 6 2Y (out)
part C pins: 8 3Y (out), 9 3A (in), 10 3B (in), 11 3C (in)
part D pins: 7 GND (power), 14 VCC (power)

## CD74HCT11M
designator U?
High Speed CMOS Logic Triple 3-Input AND Gates, D0014A, TUBE; Generic Part Number: CD74HCT11; Manufacturer: Texas Instruments; PartNumber: CD74HCT11M; VCC(Min)(V): 4.5; VCC(Max)(V): 5.5; ICC @ Nom Voltage(Max)(mA): 0.02; Input Type: TTL; Bits(#): 3; F @ Nom Voltage(Max)(Mhz): 25; Rating: Catalog; Technology Family: HCT; Voltage(Nom)(V): 5; Schmitt Trigger: No; Output Drive (IOL/IOH)(Max)(mA): -4/4; tpd @ Nom Voltage(Max)(ns): 35; DatasheetVersion: SCHS273E; PackageReference: D0014A; Supplier 1: Mouser; Supplier Part Number 1: 595-CD74HCT11M; Supplier 2: Digi-Key; Supplier Part Number 2: 296-33128-5-ND; Output Type: CMOS; Operating Temperature Range(C): -55 to 125; ComponentLink1Description: Manufacturer URL; ComponentLink1URL: http://www.ti.com/; ComponentLink2Description: Datasheet; ComponentLink2URL: http://www.ti.com/lit/ds/symlink/cd74hct11.pdf
footprint D0014A_N (SOIC, 14-Leads, Body 8.75x4mm, Pitch 1.27mm, IPC Medium Density)
footprint D0014A_M (SOIC, 14-Leads, Body 8.75x4mm, Pitch 1.27mm, IPC Low Density)
footprint D0014A_L (SOIC, 14-Leads, Body 8.75x4mm, Pitch 1.27mm, IPC High Density)
part A pins: 1 1A (in), 2 1B (in), 12 1Y (out), 13 1C (in)
part B pins: 3 2A (in), 4 2B (in), 5 2C (in), 6 2Y (out)
part C pins: 8 3Y (out), 9 3A (in), 10 3B (in), 11 3C (in)
part D pins: 7 GND (power), 14 VCC (power)

## CD74HCT11M96
designator U?
High Speed CMOS Logic Triple 3-Input AND Gates, D0014A, LARGE T&R; Generic Part Number: CD74HCT11; Manufacturer: Texas Instruments; PartNumber: CD74HCT11M96; VCC(Min)(V): 4.5; VCC(Max)(V): 5.5; ICC @ Nom Voltage(Max)(mA): 0.02; Input Type: TTL; Bits(#): 3; F @ Nom Voltage(Max)(Mhz): 25; Rating: Catalog; Technology Family: HCT; Voltage(Nom)(V): 5; Schmitt Trigger: No; Output Drive (IOL/IOH)(Max)(mA): -4/4; tpd @ Nom Voltage(Max)(ns): 35; DatasheetVersion: SCHS273E; PackageReference: D0014A; Supplier 1: Mouser; Supplier Part Number 1: 595-CD74HCT11M96; Supplier 2: Digi-Key; Supplier Part Number 2: 296-9249-2-ND; Supplier 3: Digi-Key; Supplier Part Number 3: 296-9249-1-ND; Supplier 4: Digi-Key; Supplier Part Number 4: 296-9249-6-ND; Output Type: CMOS; Operating Temperature Range(C): -55 to 125; ComponentLink1Description: Manufacturer URL; ComponentLink1URL: http://www.ti.com/; ComponentLink2Description: Datasheet; ComponentLink2URL: http://www.ti.com/lit/ds/symlink/cd74hct11.pdf
footprint D0014A_N (SOIC, 14-Leads, Body 8.75x4mm, Pitch 1.27mm, IPC Medium Density)
footprint D0014A_M (SOIC, 14-Leads, Body 8.75x4mm, Pitch 1.27mm, IPC Low Density)
footprint D0014A_L (SOIC, 14-Leads, Body 8.75x4mm, Pitch 1.27mm, IPC High Density)
part A pins: 1 1A (in), 2 1B (in), 12 1Y (out), 13 1C (in)
part B pins: 3 2A (in), 4 2B (in), 5 2C (in), 6 2Y (out)
part C pins: 8 3Y (out), 9 3A (in), 10 3B (in), 11 3C (in)
part D pins: 7 GND (power), 14 VCC (power)

## CD74HCT11MT
designator U?
High Speed CMOS Logic Triple 3-Input AND Gates, D0014A, SMALL T&R; Generic Part Number: CD74HCT11; Manufacturer: Texas Instruments; PartNumber: CD74HCT11MT; VCC(Min)(V): 4.5; VCC(Max)(V): 5.5; ICC @ Nom Voltage(Max)(mA): 0.02; Input Type: TTL; Bits(#): 3; F @ Nom Voltage(Max)(Mhz): 25; Rating: Catalog; Technology Family: HCT; Voltage(Nom)(V): 5; Schmitt Trigger: No; Output Drive (IOL/IOH)(Max)(mA): -4/4; tpd @ Nom Voltage(Max)(ns): 35; DatasheetVersion: SCHS273E; PackageReference: D0014A; Supplier 1: Mouser; Supplier Part Number 1: 595-CD74HCT11MT; Supplier 2: Digi-Key; Supplier Part Number 2: CD74HCT11MT-ND; Output Type: CMOS; Operating Temperature Range(C): -55 to 125; ComponentLink1Description: Manufacturer URL; ComponentLink1URL: http://www.ti.com/; ComponentLink2Description: Datasheet; ComponentLink2URL: http://www.ti.com/lit/ds/symlink/cd74hct11.pdf
footprint D0014A_N (SOIC, 14-Leads, Body 8.75x4mm, Pitch 1.27mm, IPC Medium Density)
footprint D0014A_M (SOIC, 14-Leads, Body 8.75x4mm, Pitch 1.27mm, IPC Low Density)
footprint D0014A_L (SOIC, 14-Leads, Body 8.75x4mm, Pitch 1.27mm, IPC High Density)
part A pins: 1 1A (in), 2 1B (in), 12 1Y (out), 13 1C (in)
part B pins: 3 2A (in), 4 2B (in), 5 2C (in), 6 2Y (out)
part C pins: 8 3Y (out), 9 3A (in), 10 3B (in), 11 3C (in)
part D pins: 7 GND (power), 14 VCC (power)

## CD74HCT20E
designator U?
High Speed CMOS Logic Dual 4-Input NAND Gates, N0014A, TUBE; Generic Part Number: CD74HCT20; Manufacturer: Texas Instruments; PartNumber: CD74HCT20E; VCC(Min)(V): 4.5; VCC(Max)(V): 5.5; ICC @ Nom Voltage(Max)(mA): 0.02; Input Type: TTL; Bits(#): 2; F @ Nom Voltage(Max)(Mhz): 25; Rating: Catalog; Technology Family: HCT; Voltage(Nom)(V): 5; Schmitt Trigger: No; Output Drive (IOL/IOH)(Max)(mA): 4/-4; tpd @ Nom Voltage(Max)(ns): 35; DatasheetVersion: SCHS130C; PackageReference: N0014A; Supplier 1: Mouser; Supplier Part Number 1: 595-CD74HCT20E; Supplier 2: Digi-Key; Supplier Part Number 2: 296-2135-5-ND; Output Type: CMOS; Operating Temperature Range(C): -55 to 125; Code_JEDEC: MS-001; ComponentLink1Description: Manufacturer URL; ComponentLink1URL: http://www.ti.com/; ComponentLink2Description: Datasheet; ComponentLink2URL: http://www.ti.com/lit/ds/symlink/cd74hct20.pdf; ComponentLink3Description: Package Specification; ComponentLink3URL: http://www.ti.com/lit/ml/mpdi002c/mpdi002c.pdf
footprint N0014A (DIP, 14-Leads, Body 19.7x6.6mm, Pitch 2.54mm)
part A pins: 1 1A (in), 2 1B (in), 4 1C (in), 5 1D (in), 6 1Y (out)
part B pins: 8 2Y (out), 9 2A (in), 10 2B (in), 12 2C (in), 13 2D (in)
part C pins: 3 NC, 7 GND (power), 11 NC, 14 VCC (power)

## CD74HCT20M
designator U?
High Speed CMOS Logic Dual 4-Input NAND Gates, D0014A, TUBE; Generic Part Number: CD74HCT20; Manufacturer: Texas Instruments; PartNumber: CD74HCT20M; VCC(Min)(V): 4.5; VCC(Max)(V): 5.5; ICC @ Nom Voltage(Max)(mA): 0.02; Input Type: TTL; Bits(#): 2; F @ Nom Voltage(Max)(Mhz): 25; Rating: Catalog; Technology Family: HCT; Voltage(Nom)(V): 5; Schmitt Trigger: No; Output Drive (IOL/IOH)(Max)(mA): 4/-4; tpd @ Nom Voltage(Max)(ns): 35; DatasheetVersion: SCHS130C; PackageReference: D0014A; Supplier 1: Mouser; Supplier Part Number 1: 595-CD74HCT20M; Supplier 2: Digi-Key; Supplier Part Number 2: 296-33137-5-ND; Output Type: CMOS; Operating Temperature Range(C): -55 to 125; Code_JEDEC: MS-012; ComponentLink1Description: Manufacturer URL; ComponentLink1URL: http://www.ti.com/; ComponentLink2Description: Datasheet; ComponentLink2URL: http://www.ti.com/lit/ds/symlink/cd74hct20.pdf; ComponentLink3Description: Package Specification; ComponentLink3URL: http://www.ti.com/lit/ml/mpds177g/mpds177g.pdf
footprint D0014A_N (SOIC, 14-Leads, Body 8.75x4mm, Pitch 1.27mm, IPC Medium Density)
footprint D0014A_M (SOIC, 14-Leads, Body 8.75x4mm, Pitch 1.27mm, IPC Low Density)
footprint D0014A_L (SOIC, 14-Leads, Body 8.75x4mm, Pitch 1.27mm, IPC High Density)
part A pins: 1 1A (in), 2 1B (in), 4 1C (in), 5 1D (in), 6 1Y (out)
part B pins: 8 2Y (out), 9 2A (in), 10 2B (in), 12 2C (in), 13 2D (in)
part C pins: 3 NC, 7 GND (power), 11 NC, 14 VCC (power)

## CD74HCT20M96
designator U?
High Speed CMOS Logic Dual 4-Input NAND Gates, D0014A, LARGE T&R; Generic Part Number: CD74HCT20; Manufacturer: Texas Instruments; PartNumber: CD74HCT20M96; VCC(Min)(V): 4.5; VCC(Max)(V): 5.5; ICC @ Nom Voltage(Max)(mA): 0.02; Input Type: TTL; Bits(#): 2; F @ Nom Voltage(Max)(Mhz): 25; Rating: Catalog; Technology Family: HCT; Voltage(Nom)(V): 5; Schmitt Trigger: No; Output Drive (IOL/IOH)(Max)(mA): 4/-4; tpd @ Nom Voltage(Max)(ns): 35; DatasheetVersion: SCHS130C; PackageReference: D0014A; Supplier 1: Mouser; Supplier Part Number 1: 595-CD74HCT20M96; Supplier 2: Digi-Key; Supplier Part Number 2: 296-38074-2-ND; Supplier 3: Digi-Key; Supplier Part Number 3: 296-38074-1-ND; Supplier 4: Digi-Key; Supplier Part Number 4: 296-38074-6-ND; Output Type: CMOS; Operating Temperature Range(C): -55 to 125; Code_JEDEC: MS-012; ComponentLink1Description: Manufacturer URL; ComponentLink1URL: http://www.ti.com/; ComponentLink2Description: Datasheet; ComponentLink2URL: http://www.ti.com/lit/ds/symlink/cd74hct20.pdf; ComponentLink3Description: Package Specification; ComponentLink3URL: http://www.ti.com/lit/ml/mpds177g/mpds177g.pdf
footprint D0014A_N (SOIC, 14-Leads, Body 8.75x4mm, Pitch 1.27mm, IPC Medium Density)
footprint D0014A_M (SOIC, 14-Leads, Body 8.75x4mm, Pitch 1.27mm, IPC Low Density)
footprint D0014A_L (SOIC, 14-Leads, Body 8.75x4mm, Pitch 1.27mm, IPC High Density)
part A pins: 1 1A (in), 2 1B (in), 4 1C (in), 5 1D (in), 6 1Y (out)
part B pins: 8 2Y (out), 9 2A (in), 10 2B (in), 12 2C (in), 13 2D (in)
part C pins: 3 NC, 7 GND (power), 11 NC, 14 VCC (power)

## CD74HCT20MT
designator U?
High Speed CMOS Logic Dual 4-Input NAND Gates, D0014A, SMALL T&R; Generic Part Number: CD74HCT20; Manufacturer: Texas Instruments; PartNumber: CD74HCT20MT; VCC(Min)(V): 4.5; VCC(Max)(V): 5.5; ICC @ Nom Voltage(Max)(mA): 0.02; Input Type: TTL; Bits(#): 2; F @ Nom Voltage(Max)(Mhz): 25; Rating: Catalog; Technology Family: HCT; Voltage(Nom)(V): 5; Schmitt Trigger: No; Output Drive (IOL/IOH)(Max)(mA): 4/-4; tpd @ Nom Voltage(Max)(ns): 35; DatasheetVersion: SCHS130C; PackageReference: D0014A; Supplier 1: Mouser; Supplier Part Number 1: 595-CD74HCT20MT; Supplier 2: Digi-Key; Supplier Part Number 2: 296-32081-2-ND; Supplier 3: Digi-Key; Supplier Part Number 3: 296-32081-1-ND; Supplier 4: Digi-Key; Supplier Part Number 4: 296-32081-6-ND; Output Type: CMOS; Operating Temperature Range(C): -55 to 125; Code_JEDEC: MS-012; ComponentLink1Description: Manufacturer URL; ComponentLink1URL: http://www.ti.com/; ComponentLink2Description: Datasheet; ComponentLink2URL: http://www.ti.com/lit/ds/symlink/cd74hct20.pdf; ComponentLink3Description: Package Specification; ComponentLink3URL: http://www.ti.com/lit/ml/mpds177g/mpds177g.pdf
footprint D0014A_N (SOIC, 14-Leads, Body 8.75x4mm, Pitch 1.27mm, IPC Medium Density)
footprint D0014A_M (SOIC, 14-Leads, Body 8.75x4mm, Pitch 1.27mm, IPC Low Density)
footprint D0014A_L (SOIC, 14-Leads, Body 8.75x4mm, Pitch 1.27mm, IPC High Density)
part A pins: 1 1A (in), 2 1B (in), 4 1C (in), 5 1D (in), 6 1Y (out)
part B pins: 8 2Y (out), 9 2A (in), 10 2B (in), 12 2C (in), 13 2D (in)
part C pins: 3 NC, 7 GND (power), 11 NC, 14 VCC (power)

## CD74HCT21E
designator U?
High Speed CMOS Logic Dual 4-Input AND Gate, N0014A, TUBE; Generic Part Number: CD74HCT21; Manufacturer: Texas Instruments; PartNumber: CD74HCT21E; VCC(Min)(V): 4.5; VCC(Max)(V): 5.5; ICC @ Nom Voltage(Max)(mA): 0.02; Input Type: TTL; Bits(#): 2; F @ Nom Voltage(Max)(Mhz): 25; Rating: Catalog; Technology Family: HCT; Voltage(Nom)(V): 5; Schmitt Trigger: No; Output Drive (IOL/IOH)(Max)(mA): -4/4; tpd @ Nom Voltage(Max)(ns): 34; DatasheetVersion: SCHS131C; PackageReference: N0014A; Supplier 1: Mouser; Supplier Part Number 1: 595-CD74HCT21E; Supplier 2: Digi-Key; Supplier Part Number 2: 296-9262-5-ND; Output Type: CMOS; Operating Temperature Range(C): -55 to 125; ComponentLink1Description: Manufacturer URL; ComponentLink1URL: http://www.ti.com/; ComponentLink2Description: Datasheet; ComponentLink2URL: http://www.ti.com/lit/ds/symlink/cd74hct21.pdf
footprint N0014A (DIP, 14-Leads, Body 19.7x6.6mm, Pitch 2.54mm)
part A pins: 1 1A (in), 2 1B (in), 4 1C (in), 5 1D (in), 6 1Y (out)
part B pins: 8 2Y (out), 9 2A (in), 10 2B (in), 12 2C (in), 13 2D (in)
part C pins: 3 NC, 7 GND (power), 11 NC, 14 VCC (power)

## CD74HCT21M
designator U?
High Speed CMOS Logic Dual 4-Input AND Gate, D0014A, TUBE; Generic Part Number: CD74HCT21; Manufacturer: Texas Instruments; PartNumber: CD74HCT21M; VCC(Min)(V): 4.5; VCC(Max)(V): 5.5; ICC @ Nom Voltage(Max)(mA): 0.02; Input Type: TTL; Bits(#): 2; F @ Nom Voltage(Max)(Mhz): 25; Rating: Catalog; Technology Family: HCT; Voltage(Nom)(V): 5; Schmitt Trigger: No; Output Drive (IOL/IOH)(Max)(mA): -4/4; tpd @ Nom Voltage(Max)(ns): 34; DatasheetVersion: SCHS131C; PackageReference: D0014A; Supplier 1: Mouser; Supplier Part Number 1: 595-CD74HCT21M; Supplier 2: Digi-Key; Supplier Part Number 2: 296-26021-5-ND; Output Type: CMOS; Operating Temperature Range(C): -55 to 125; ComponentLink1Description: Manufacturer URL; ComponentLink1URL: http://www.ti.com/; ComponentLink2Description: Datasheet; ComponentLink2URL: http://www.ti.com/lit/ds/symlink/cd74hct21.pdf
footprint D0014A_N (SOIC, 14-Leads, Body 8.75x4mm, Pitch 1.27mm, IPC Medium Density)
footprint D0014A_M (SOIC, 14-Leads, Body 8.75x4mm, Pitch 1.27mm, IPC Low Density)
footprint D0014A_L (SOIC, 14-Leads, Body 8.75x4mm, Pitch 1.27mm, IPC High Density)
part A pins: 1 1A (in), 2 1B (in), 4 1C (in), 5 1D (in), 6 1Y (out)
part B pins: 8 2Y (out), 9 2A (in), 10 2B (in), 12 2C (in), 13 2D (in)
part C pins: 3 NC, 7 GND (power), 11 NC, 14 VCC (power)